# EAGLE library part 5HT-F (library inductor-toko)
HELICAL FILTER 5MM TOKO 5HT Series
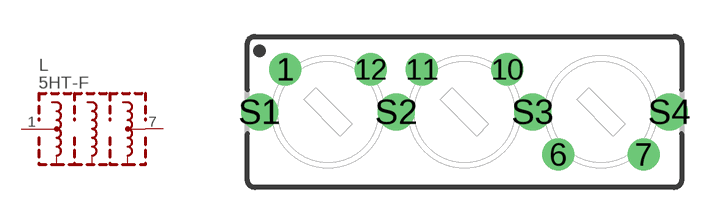
[diagram p4: symbol with the pads of 5HT-F; footprint 5HT-F]

Designator prefix L

## 5HT-F  [5HT-F]
1  1  pas
6  6  pas
7  7  pas
10  10  pas
12  12  pas
S1  S1  pas
S2  S2  pas
S3  S3  pas
S4  S4  pas

## Footprint 5HT-F (pad centres in mm)
HELICAL FILTER - TOKO Type 5HT- Triple Tuned
drill 0.813: 1 -7.35,1.75; 6 3.85,-1.75; 7 7.35,-1.75; 10 1.75,1.75; 11 -1.75,1.75; 12 -3.85,1.75
drill 1.016: S1 -8.4,0; S2 -2.8,0; S3 2.8,0; S4 8.4,0